# EAGLE library part M38C/8X(144PIN) (library renesas_mcu)
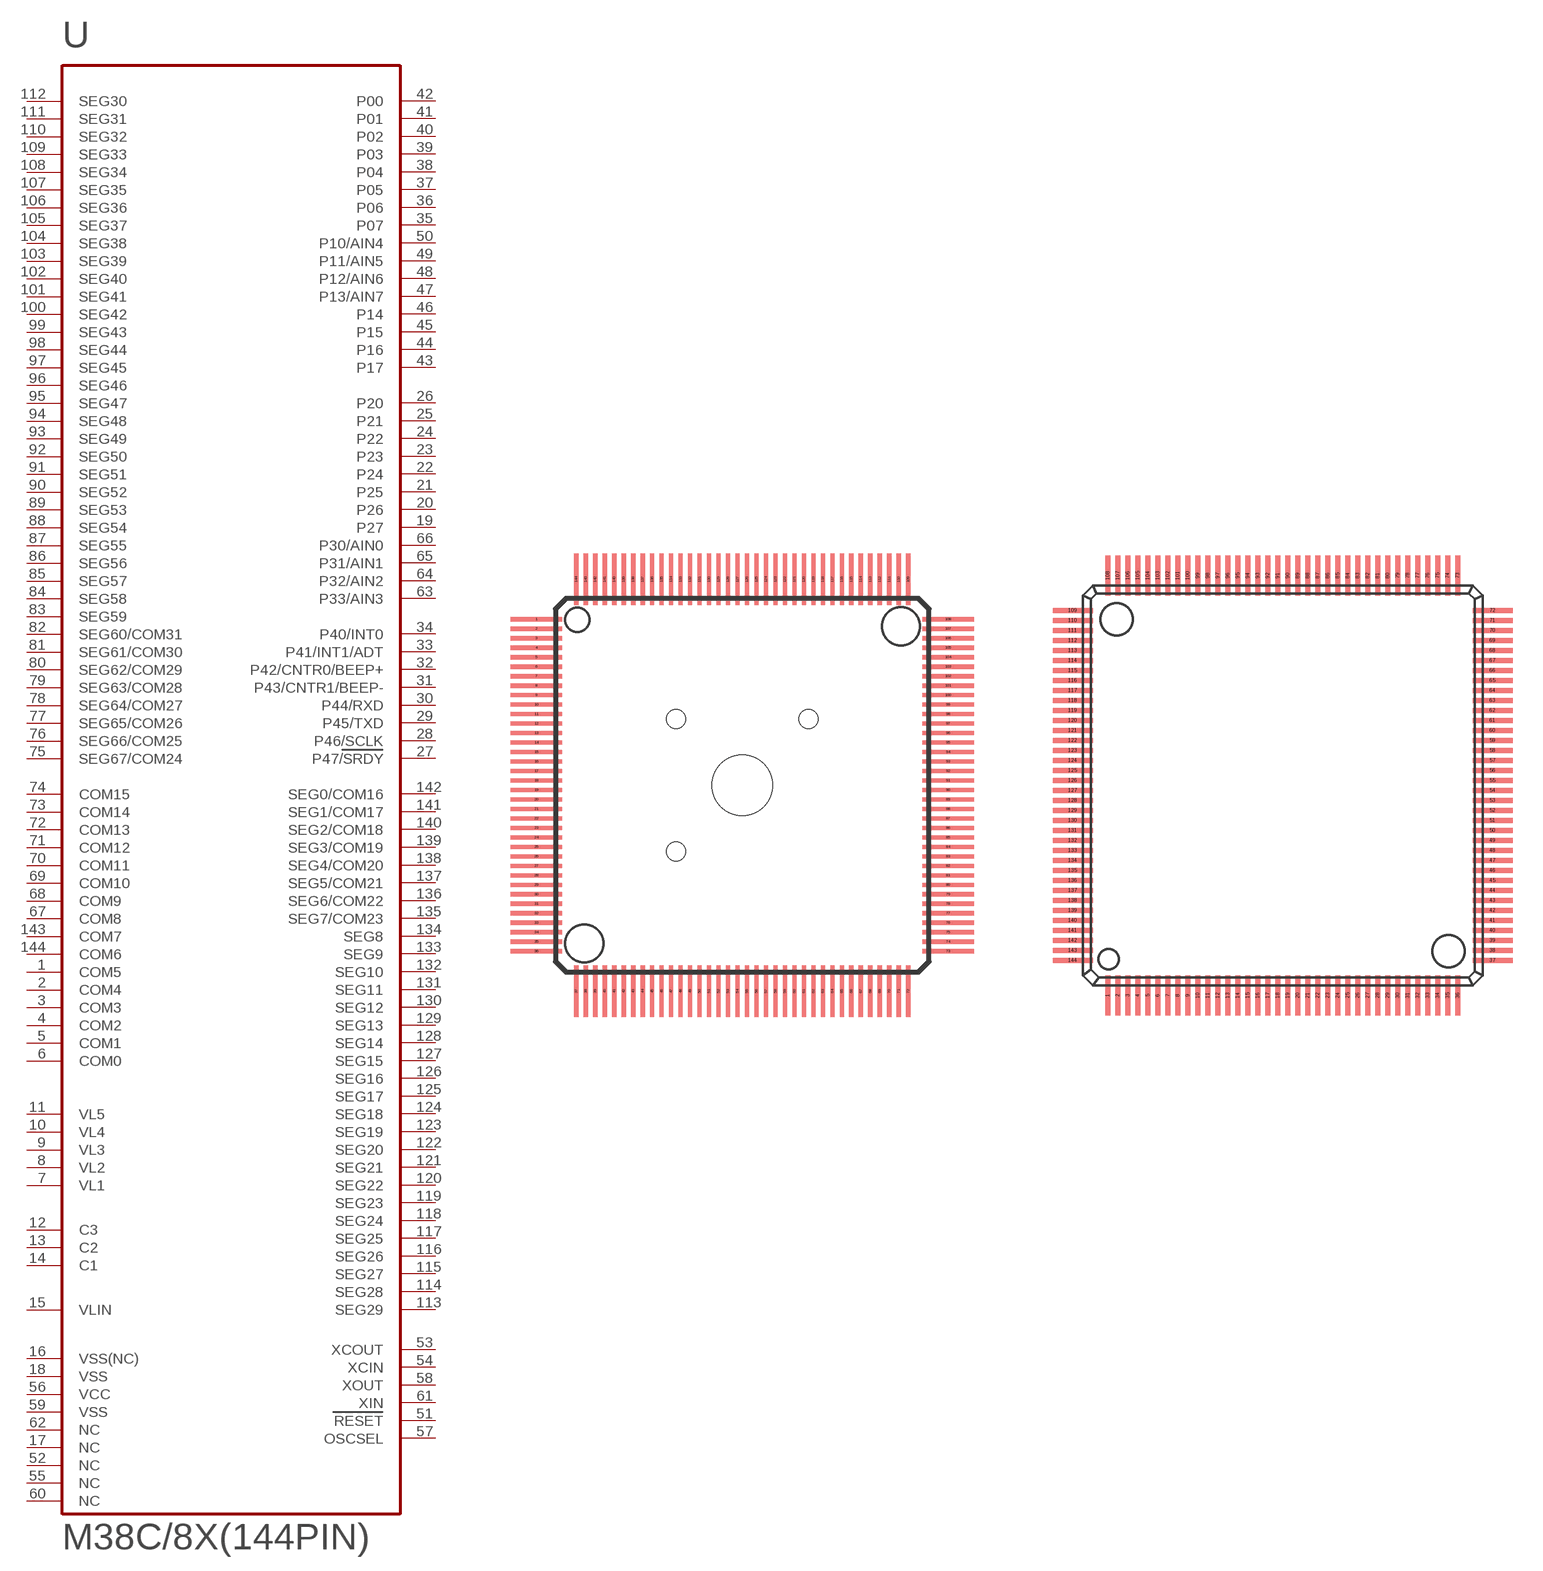
[diagram p16: symbol with the pads of 144P6Q-A(SOCKET); footprints 144P6Q-A(SOCKET), 144P6Q-A]

Designator prefix -

## M38C/8X(144PIN)2  [144P6Q-A(SOCKET)]
1  COM5  out
2  COM4  out
3  COM3  out
4  COM2  out
5  COM1  out
6  COM0  out
7  VL1  out
8  VL2  out
9  VL3  out
10  VL4  out
11  VL5  out
12  C3  in
13  C2  in
14  C1  in
15  VLIN  in
16  VSS(NC)  pwr
17  NC  nc
18  VSS  pwr
19  P27
20  P26
21  P25
22  P24
23  P23
24  P22
25  P21
26  P20
27  P47/SRDY
28  P46/SCLK
29  P45/TXD
30  P44/RXD
31  P43/CNTR1/BEEP-
32  P42/CNTR0/BEEP+
33  P41/INT1/ADT
34  P40/INT0  in
35  P07
36  P06
37  P05
38  P04
39  P03
40  P02
41  P01
42  P00
43  P17
44  P16
45  P15
46  P14
47  P13/AIN7
48  P12/AIN6
49  P11/AIN5
50  P10/AIN4
51  RESET  in
52  NC  nc
53  XCOUT  out
54  XCIN  in
55  NC  nc
56  VCC  pwr
57  OSCSEL  in
58  XOUT  out
59  VSS  pwr
60  NC  nc
61  XIN  in
62  NC  nc
63  P33/AIN3
64  P32/AIN2
65  P31/AIN1
66  P30/AIN0
67  COM8  out
68  COM9  out
69  COM10  out
70  COM11  out
71  COM12  out
72  COM13  out
73  COM14  out
74  COM15  out
75  SEG67/COM24
76  SEG66/COM25
77  SEG65/COM26
78  SEG64/COM27
79  SEG63/COM28
80  SEG62/COM29
81  SEG61/COM30
82  SEG60/COM31
83  SEG59
84  SEG58
85  SEG57
86  SEG56
87  SEG55
88  SEG54
89  SEG53
90  SEG52
91  SEG51
92  SEG50
93  SEG49
94  SEG48
95  SEG47
96  SEG46
97  SEG45
98  SEG44
99  SEG43
100  SEG42
101  SEG41
102  SEG40
103  SEG39  in
104  SEG38
105  SEG37
106  SEG36
107  SEG35
108  SEG34
109  SEG33  out
110  SEG32  out
111  SEG31  out
112  SEG30  out
113  SEG29  out
114  SEG28  out
115  SEG27  out
116  SEG26  out
117  SEG25  out
118  SEG24  out
119  SEG23  out
120  SEG22  out
121  SEG21  out
122  SEG20  out
123  SEG19  out
124  SEG18  out
125  SEG17  out
126  SEG16  out
127  SEG15  out
128  SEG14  out
129  SEG13  out
130  SEG12  out
131  SEG11  out
132  SEG10  out
133  SEG9  out
134  SEG8  out
135  SEG7/COM23  out
136  SEG6/COM22  out
137  SEG5/COM21  out
138  SEG4/COM20  out
139  SEG3/COM19  out
140  SEG2/COM18  out
141  SEG1/COM17  out
142  SEG0/COM16  out
143  COM7  out
144  COM6  out

## M38C/8X(144PIN)1  [144P6Q-A]
Pads as for 144P6Q-A(SOCKET)

## Footprint 144P6Q-A(SOCKET) (pad centres in mm)
smd 2.7 x 0.225: 1 -10.85,8.75; 2 -10.85,8.25; 3 -10.85,7.75; 4 -10.85,7.25; 5 -10.85,6.75; 6 -10.85,6.25; 7 -10.85,5.75; 8 -10.85,5.25; 9 -10.85,4.75; 10 -10.85,4.25; 11 -10.85,3.75; 12 -10.85,3.25; 13 -10.85,2.75; 14 -10.85,2.25; 15 -10.85,1.75; 16 -10.85,1.25; 17 -10.85,0.75; 18 -10.85,0.25; 19 -10.85,-0.25; 20 -10.85,-0.75; 21 -10.85,-1.25; 22 -10.85,-1.75; 23 -10.85,-2.25; 24 -10.85,-2.75; 25 -10.85,-3.25; 26 -10.85,-3.75; 27 -10.85,-4.25; 28 -10.85,-4.75; 29 -10.85,-5.25; 30 -10.85,-5.75; 31 -10.85,-6.25; 32 -10.85,-6.75; 33 -10.85,-7.25; 34 -10.85,-7.75; 35 -10.85,-8.25; 36 -10.85,-8.75; 73 10.85,-8.75; 74 10.85,-8.25; 75 10.85,-7.75; 76 10.85,-7.25; 77 10.85,-6.75; 78 10.85,-6.25; 79 10.85,-5.75; 80 10.85,-5.25; 81 10.85,-4.75; 82 10.85,-4.25; 83 10.85,-3.75; 84 10.85,-3.25; 85 10.85,-2.75; 86 10.85,-2.25; 87 10.85,-1.75; 88 10.85,-1.25; 89 10.85,-0.75; 90 10.85,-0.25; 91 10.85,0.25; 92 10.85,0.75; 93 10.85,1.25; 94 10.85,1.75; 95 10.85,2.25; 96 10.85,2.75; 97 10.85,3.25; 98 10.85,3.75; 99 10.85,4.25; 100 10.85,4.75; 101 10.85,5.25; 102 10.85,5.75; 103 10.85,6.25; 104 10.85,6.75; 105 10.85,7.25; 106 10.85,7.75; 107 10.85,8.25; 108 10.85,8.75
smd 0.225 x 2.7: 37 -8.75,-10.85; 38 -8.25,-10.85; 39 -7.75,-10.85; 40 -7.25,-10.85; 41 -6.75,-10.85; 42 -6.25,-10.85; 43 -5.75,-10.85; 44 -5.25,-10.85; 45 -4.75,-10.85; 46 -4.25,-10.85; 47 -3.75,-10.85; 48 -3.25,-10.85; 49 -2.75,-10.85; 50 -2.25,-10.85; 51 -1.75,-10.85; 52 -1.25,-10.85; 53 -0.75,-10.85; 54 -0.25,-10.85; 55 0.25,-10.85; 56 0.75,-10.85; 57 1.25,-10.85; 58 1.75,-10.85; 59 2.25,-10.85; 60 2.75,-10.85; 61 3.25,-10.85; 62 3.75,-10.85; 63 4.25,-10.85; 64 4.75,-10.85; 65 5.25,-10.85; 66 5.75,-10.85; 67 6.25,-10.85; 68 6.75,-10.85; 69 7.25,-10.85; 70 7.75,-10.85; 71 8.25,-10.85; 72 8.75,-10.85; 109 8.75,10.85; 110 8.25,10.85; 111 7.75,10.85; 112 7.25,10.85; 113 6.75,10.85; 114 6.25,10.85; 115 5.75,10.85; 116 5.25,10.85; 117 4.75,10.85; 118 4.25,10.85; 119 3.75,10.85; 120 3.25,10.85; 121 2.75,10.85; 122 2.25,10.85; 123 1.75,10.85; 124 1.25,10.85; 125 0.75,10.85; 126 0.25,10.85; 127 -0.25,10.85; 128 -0.75,10.85; 129 -1.25,10.85; 130 -1.75,10.85; 131 -2.25,10.85; 132 -2.75,10.85; 133 -3.25,10.85; 134 -3.75,10.85; 135 -4.25,10.85; 136 -4.75,10.85; 137 -5.25,10.85; 138 -5.75,10.85; 139 -6.25,10.85; 140 -6.75,10.85; 141 -7.25,10.85; 142 -7.75,10.85; 143 -8.25,10.85; 144 -8.75,10.85
hole 3.2 at 0,0
hole 1 at -3.5,3.5
hole 1 at 3.5,3.5
hole 1 at -3.5,-3.5

## Footprint 144P6Q-A (pad centres in mm)
smd 0.25 x 2: 1 -8.75,-10.5; 2 -8.25,-10.5; 3 -7.75,-10.5; 4 -7.25,-10.5; 5 -6.75,-10.5; 6 -6.25,-10.5; 7 -5.75,-10.5; 8 -5.25,-10.5; 9 -4.75,-10.5; 10 -4.25,-10.5; 11 -3.75,-10.5; 12 -3.25,-10.5; 13 -2.75,-10.5; 14 -2.25,-10.5; 15 -1.75,-10.5; 16 -1.25,-10.5; 17 -0.75,-10.5; 18 -0.25,-10.5; 19 0.25,-10.5; 20 0.75,-10.5; 21 1.25,-10.5; 22 1.75,-10.5; 23 2.25,-10.5; 24 2.75,-10.5; 25 3.25,-10.5; 26 3.75,-10.5; 27 4.25,-10.5; 28 4.75,-10.5; 29 5.25,-10.5; 30 5.75,-10.5; 31 6.25,-10.5; 32 6.75,-10.5; 33 7.25,-10.5; 34 7.75,-10.5; 35 8.25,-10.5; 36 8.75,-10.5; 73 8.75,10.5; 74 8.25,10.5; 75 7.75,10.5; 76 7.25,10.5; 77 6.75,10.5; 78 6.25,10.5; 79 5.75,10.5; 80 5.25,10.5; 81 4.75,10.5; 82 4.25,10.5; 83 3.75,10.5; 84 3.25,10.5; 85 2.75,10.5; 86 2.25,10.5; 87 1.75,10.5; 88 1.25,10.5; 89 0.75,10.5; 90 0.25,10.5; 91 -0.25,10.5; 92 -0.75,10.5; 93 -1.25,10.5; 94 -1.75,10.5; 95 -2.25,10.5; 96 -2.75,10.5; 97 -3.25,10.5; 98 -3.75,10.5; 99 -4.25,10.5; 100 -4.75,10.5; 101 -5.25,10.5; 102 -5.75,10.5; 103 -6.25,10.5; 104 -6.75,10.5; 105 -7.25,10.5; 106 -7.75,10.5; 107 -8.25,10.5; 108 -8.75,10.5
smd 2 x 0.25: 37 10.5,-8.75; 38 10.5,-8.25; 39 10.5,-7.75; 40 10.5,-7.25; 41 10.5,-6.75; 42 10.5,-6.25; 43 10.5,-5.75; 44 10.5,-5.25; 45 10.5,-4.75; 46 10.5,-4.25; 47 10.5,-3.75; 48 10.5,-3.25; 49 10.5,-2.75; 50 10.5,-2.25; 51 10.5,-1.75; 52 10.5,-1.25; 53 10.5,-0.75; 54 10.5,-0.25; 55 10.5,0.25; 56 10.5,0.75; 57 10.5,1.25; 58 10.5,1.75; 59 10.5,2.25; 60 10.5,2.75; 61 10.5,3.25; 62 10.5,3.75; 63 10.5,4.25; 64 10.5,4.75; 65 10.5,5.25; 66 10.5,5.75; 67 10.5,6.25; 68 10.5,6.75; 69 10.5,7.25; 70 10.5,7.75; 71 10.5,8.25; 72 10.5,8.75; 109 -10.5,8.75; 110 -10.5,8.25; 111 -10.5,7.75; 112 -10.5,7.25; 113 -10.5,6.75; 114 -10.5,6.25; 115 -10.5,5.75; 116 -10.5,5.25; 117 -10.5,4.75; 118 -10.5,4.25; 119 -10.5,3.75; 120 -10.5,3.25; 121 -10.5,2.75; 122 -10.5,2.25; 123 -10.5,1.75; 124 -10.5,1.25; 125 -10.5,0.75; 126 -10.5,0.25; 127 -10.5,-0.25; 128 -10.5,-0.75; 129 -10.5,-1.25; 130 -10.5,-1.75; 131 -10.5,-2.25; 132 -10.5,-2.75; 133 -10.5,-3.25; 134 -10.5,-3.75; 135 -10.5,-4.25; 136 -10.5,-4.75; 137 -10.5,-5.25; 138 -10.5,-5.75; 139 -10.5,-6.25; 140 -10.5,-6.75; 141 -10.5,-7.25; 142 -10.5,-7.75; 143 -10.5,-8.25; 144 -10.5,-8.75